# Altium footprint library 线性稳压器.PcbLib: 5 footprints
Each footprint in its own frame and in the unit in brackets; x right, y up, seen from the top. Pads: shape width x height; smd on the part's side, far side on the other; paste and mask are expansions set on the pad; w line width, h text height; cw(c..) or ccw(c..) is an arc to the next point about the centre after c.
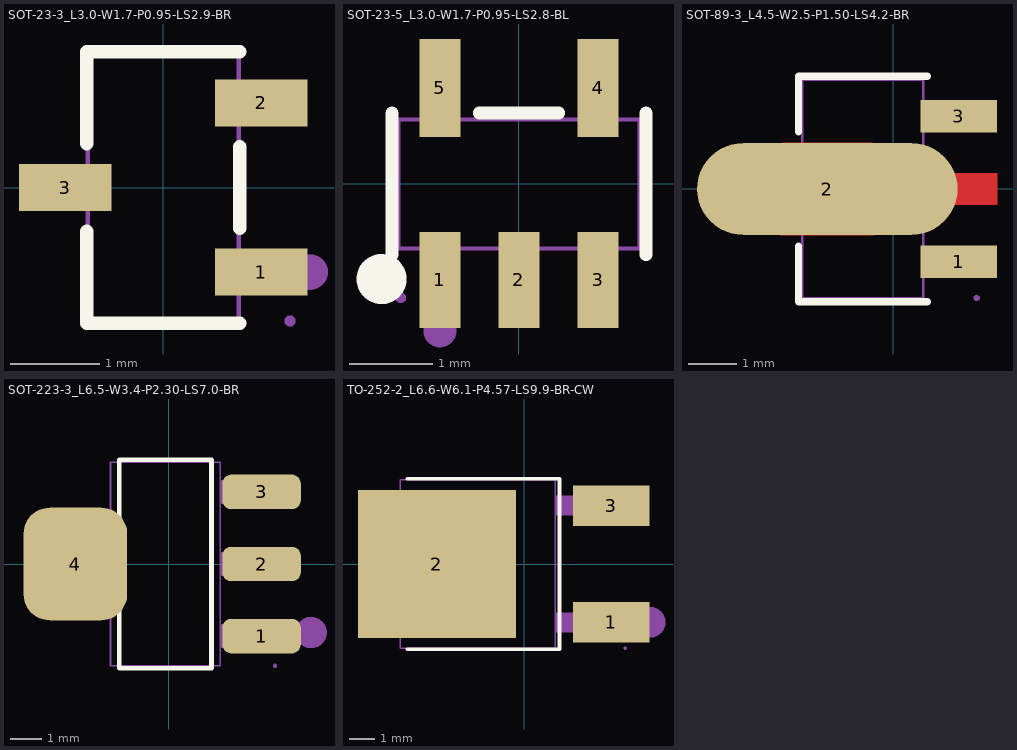
[diagram p0: the footprints below, top view; thin cyan lines are the x and y axes]

## SOT-23-3_L3.0-W1.7-P0.95-LS2.9-BR [mm]
pads (3):
  rect 1.037x0.532 smd: 1(1.101,-0.95) 2(1.101,0.95) 3(-1.101,0)
Top Overlay:
  lines w0.152: -0.859,-0.495 -0.859,-1.526 0.859,-1.526 ; -0.859,0.495 -0.859,1.526 0.859,1.526 ; 0.859,-0.455 0.859,0.455
Mechanical 6:
  circle w0.2: c1.65,-0.95 r0.1
Mechanical 15:
  region: 1.485,-1.5 1.485,-1.475 1.45,-1.44 1.4,-1.44 1.365,-1.475 1.365,-1.5 1.365,-1.525 1.4,-1.56 1.45,-1.56 1.485,-1.525
  region: -1.01,-0.188 -1.01,0.188 -0.815,0.188 -0.815,-0.188
  region: -1.425,-0.188 -1.425,0.188 -1,0.188 -1,-0.188
  region: 0.815,0.762 0.815,1.137 1.01,1.137 1.01,0.762
  region: 1,0.762 1,1.137 1.425,1.137 1.425,0.762
  region: 0.815,-1.137 0.815,-0.762 1.01,-0.762 1.01,-1.137
  region: 1,-1.137 1,-0.762 1.425,-0.762 1.425,-1.137
  lines w0.051: -0.85,-1.5 0.85,-1.5 0.85,1.5 -0.85,1.5 -0.85,-1.5
3D body "U6.step": height 1.4, standoff 0, extent -1.4,-1.45 1.4,1.45

## SOT-23-5_L3.0-W1.7-P0.95-LS2.8-BL [mm]
pads (5):
  rect 0.49x1.157 smd: 1(-0.95,-1.154) 2(0,-1.154) 3(0.95,-1.154)
  rect 0.49x1.175 smd: 4(0.95,1.154) 5(-0.95,1.154)
Top Overlay:
  circle w0.3: c-1.651,-1.143 r0.15
  lines w0.152: -1.526,-0.851 -1.526,0.851 ; -0.476,0.851 0.476,0.851 ; 1.526,-0.851 1.526,0.851
Mechanical 6:
  circle w0.2: c-0.95,-1.763 r0.1
Mechanical 15:
  region: -1.36,-1.37 -1.36,-1.345 -1.395,-1.31 -1.445,-1.31 -1.48,-1.345 -1.48,-1.37 -1.48,-1.395 -1.445,-1.43 -1.395,-1.43 -1.36,-1.395
  region: -1.125,0.74 -1.125,1.01 -0.775,1.01 -0.775,0.74
  region: -1.125,1 -1.125,1.4 -0.775,1.4 -0.775,1
  region: 0.775,0.74 0.775,1.01 1.125,1.01 1.125,0.74
  region: 0.775,1 0.775,1.4 1.125,1.4 1.125,1
  region: 0.775,-1.01 0.775,-0.74 1.125,-0.74 1.125,-1.01
  region: 0.775,-1.4 0.775,-1 1.125,-1 1.125,-1.4
  region: -0.175,-1.01 -0.175,-0.74 0.175,-0.74 0.175,-1.01
  region: -0.175,-1.4 -0.175,-1 0.175,-1 0.175,-1.4
  region: -1.125,-1.01 -1.125,-0.74 -0.775,-0.74 -0.775,-1.01
  region: -1.125,-1.4 -1.125,-1 -0.775,-1 -0.775,-1.4
  lines w0.051: -1.45,-0.775 1.45,-0.775 1.45,0.775 -1.45,0.775 -1.45,-0.775
3D body "SOT23-5.step": height 1.25, standoff 0, extent -1.45,-1.506 1.45,1.506

## SOT-89-3_L4.5-W2.5-P1.50-LS4.2-BR [mm]
pads (3):
  rect 1.575x0.672 smd: 1(1.356,-1.5) 3(1.356,1.5)
  oval 5.377x1.9 smd: 2(-1.356,0)
Top Layer:
  region: -2.283,0.95 -0.429,0.95 -0.384,0.949 -0.34,0.946 -0.296,0.94 -0.252,0.933 -0.208,0.924 -0.165,0.912 -0.123,0.899 -0.081,0.884 -0.04,0.866 0,0.847 0.04,0.826 0.078,0.803 0.115,0.779 0.151,0.752 0.185,0.724 0.219,0.695 0.251,0.664 0.281,0.631 0.31,0.597 0.337,0.562 0.362,0.525 0.386,0.488 0.408,0.449 0.428,0.409 0.447,0.33 2.144,0.33 2.144,-0.33 0.447,-0.33 0.428,-0.409 0.408,-0.449 0.386,-0.488 0.362,-0.526 0.337,-0.562 0.31,-0.597 0.281,-0.631 0.251,-0.664 0.219,-0.695 0.185,-0.725 0.151,-0.753 0.115,-0.779 0.078,-0.804 0.04,-0.827 0,-0.848 -0.04,-0.867 -0.081,-0.884 -0.123,-0.899 -0.165,-0.913 -0.208,-0.924 -0.252,-0.934 -0.296,-0.941 -0.34,-0.946 -0.384,-0.949 -0.429,-0.95 -2.283,-0.95 -2.328,-0.949 -2.372,-0.946 -2.416,-0.941 -2.46,-0.934 -2.504,-0.924 -2.547,-0.913 -2.589,-0.899 -2.631,-0.884 -2.672,-0.867 -2.713,-0.848 -2.752,-0.827 -2.79,-0.804 -2.827,-0.779 -2.863,-0.753 -2.898,-0.725 -2.931,-0.695 -2.963,-0.664 -2.993,-0.631 -3.022,-0.597 -3.049,-0.562 -3.075,-0.526 -3.098,-0.488 -3.12,-0.449 -3.141,-0.409 -3.159,-0.369 -3.175,-0.327 -3.189,-0.285 -3.202,-0.242 -3.212,-0.199 -3.22,-0.155 -3.227,-0.111 -3.231,-0.067 -3.233,-0.022 -3.233,0.022 -3.231,0.067 -3.227,0.111 -3.22,0.155 -3.212,0.199 -3.202,0.242 -3.189,0.285 -3.175,0.327 -3.159,0.369 -3.141,0.409 -3.12,0.449 -3.098,0.488 -3.075,0.525 -3.049,0.562 -3.022,0.597 -2.993,0.631 -2.963,0.664 -2.931,0.695 -2.898,0.724 -2.863,0.752 -2.827,0.779 -2.79,0.803 -2.752,0.826 -2.713,0.847 -2.672,0.866 -2.631,0.884 -2.589,0.899 -2.547,0.912 -2.504,0.924 -2.46,0.933 -2.416,0.94 -2.372,0.946 -2.328,0.949
Top Overlay:
  lines w0.152: -1.95,-1.177 -1.95,-2.326 0.702,-2.326 ; -1.95,1.177 -1.95,2.326 0.702,2.326
Mechanical 6:
  circle w0.3: c1.715,-1.5 r0.15
Mechanical 15:
  region: 1.784,-2.25 1.784,-2.225 1.749,-2.19 1.699,-2.19 1.664,-2.225 1.664,-2.25 1.664,-2.275 1.699,-2.31 1.749,-2.31 1.784,-2.275
  region: 0.439,-0.26 1.724,-0.26 1.724,0.26 0.439,0.26 -0.136,0.863 -2,0.863 -2.471,0.288 -2.471,-0.287 -2,-0.862 -0.136,-0.862
  region: 0.624,-1.25 1.724,-1.25 1.724,-1.75 0.624,-1.75
  region: 0.624,1.75 1.724,1.75 1.724,1.25 0.624,1.25
  lines w0.051: -1.874,-2.25 -1.874,2.25 0.626,2.25 0.626,-2.25 -1.874,-2.25
3D body "U5.step": height 1.61, standoff 0, extent -2.35,-2.15 1.75,2.15

## SOT-223-3_L6.5-W3.4-P2.30-LS7.0-BR [mm]
pads (4):
  rrect50% 2.5x1.1 smd: 1(2.97,-2.3) 2(2.97,0) 3(2.97,2.3)
  rrect50% 3.302x3.6 smd: 4(-2.97,0)
Top Overlay:
  lines w0.152: -1.571,-3.326 -1.571,3.326 1.371,3.326 1.371,-3.326 -1.571,-3.326
Mechanical 6:
  circle w0.5: c4.552,-2.188 r0.25
Mechanical 15:
  region: 3.46,-3.25 3.46,-3.225 3.425,-3.19 3.375,-3.19 3.34,-3.225 3.34,-3.25 3.34,-3.275 3.375,-3.31 3.425,-3.31 3.46,-3.275
  region: 1.64,1.925 1.64,2.675 2.66,2.675 2.66,1.925
  region: 2.65,1.925 2.65,2.675 3.4,2.675 3.4,1.925
  region: 1.64,-0.375 1.64,0.375 2.66,0.375 2.66,-0.375
  region: 2.65,-0.375 2.65,0.375 3.4,0.375 3.4,-0.375
  region: 1.64,-2.675 1.64,-1.925 2.66,-1.925 2.66,-2.675
  region: 2.65,-2.675 2.65,-1.925 3.4,-1.925 3.4,-2.675
  region: -2.86,-1.5 -2.86,1.5 -1.84,1.5 -1.84,-1.5
  region: -3.6,-1.5 -3.6,1.5 -2.85,1.5 -2.85,-1.5
  lines w0.051: -1.85,-3.25 -1.85,3.25 1.65,3.25 1.65,-3.25 -1.85,-3.25
3D body "SOT-223-3_.step": height 1.75, standoff 0, extent -3.655,-3.25 3.455,3.25

## TO-252-2_L6.6-W6.1-P4.57-LS9.9-BR-CW [mm]
pads (3):
  rect 3x1.6 smd: 1(3.424,-2.29) 3(3.424,2.29)
  rect 6.2x5.8 smd: 2(-3.424,0)
Top Overlay:
  lines w0.152: -4.585,-3.346 1.383,-3.346 1.383,3.346 -4.585,3.346
Mechanical 6:
  circle w0.6: c4.953,-2.286 r0.3
Mechanical 15:
  region: 4.021,-3.3 4.021,-3.276 3.986,-3.242 3.937,-3.242 3.902,-3.276 3.902,-3.3 3.902,-3.324 3.937,-3.358 3.986,-3.358 4.021,-3.324
  region: 1.211,-2.67 1.211,-1.91 2.381,-1.91 2.381,-2.67
  region: 2.371,-2.67 2.371,-1.91 3.961,-1.91 3.961,-2.67
  region: 1.211,1.91 1.211,2.67 2.381,2.67 2.381,1.91
  region: 2.371,1.91 2.371,2.67 3.961,2.67 3.961,1.91
  region: -4.954,2.505 -0.938,2.505 -0.938,-2.505 -4.954,-2.505 -5.954,-1.505 -5.954,1.505
  lines w0.051: -4.874,-3.3 1.221,-3.3 1.221,3.3 -4.874,3.3 -4.874,-3.3
3D body "TO-252-2.step": height 2.3, standoff 0, extent -5.96,-3.3 3.959,3.3